# EAGLE library part PCM2903B (library ti-pcm2xxx)
Stereo Audio Codec with USB Interface, Single-Ended Analog and S/PDIF In/Out (3.3v) <http://focus.ti.com/docs/prod/folders/print/pcm2903b.html>
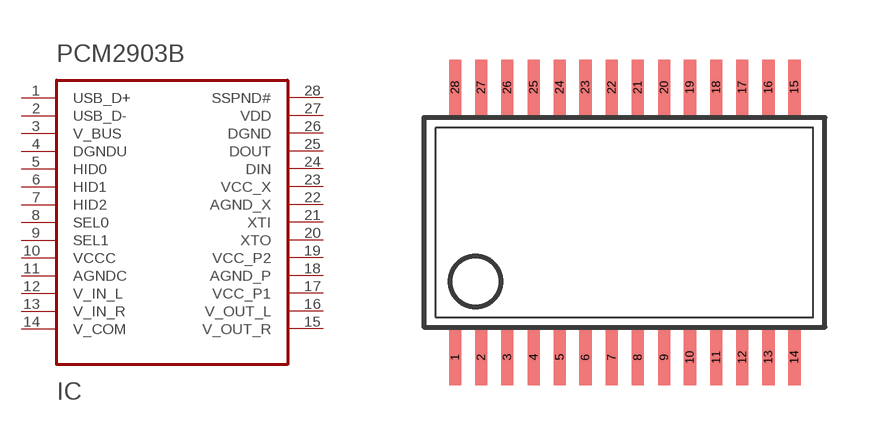
[diagram p8: symbol with the pads of SSOP28; footprint SSOP28]

Designator prefix IC

## PCM2903B  [SSOP28]
1  USB_D+
2  USB_D-
3  V_BUS
4  DGNDU
5  HID0
6  HID1
7  HID2
8  SEL0
9  SEL1
10  VCCC
11  AGNDC
12  V_IN_L  in
13  V_IN_R  in
14  V_COM
15  V_OUT_R  out
16  V_OUT_L  out
17  VCC_P1
18  AGND_P
19  VCC_P2
20  XTO
21  XTI
22  AGND_X
23  VCC_X
24  DIN  in
25  DOUT  out
26  DGND
27  VDD
28  SSPND#

## Footprint SSOP28 (pad centres in mm)
Shrink small-outline 28
smd 0.305 x 1.397: 1 -4.039,-2.856; 2 -3.384,-2.856; 3 -2.729,-2.856; 4 -2.064,-2.856; 5 -1.409,-2.856; 6 -0.764,-2.856; 7 -0.099,-2.856; 8 0.556,-2.856; 9 1.221,-2.856; 10 1.866,-2.856; 11 2.531,-2.856; 12 3.186,-2.856; 13 3.841,-2.856; 14 4.496,-2.856; 15 4.496,3.937; 16 3.841,3.937; 17 3.186,3.937; 18 2.531,3.937; 19 1.866,3.937; 20 1.221,3.937; 21 0.556,3.937; 22 -0.099,3.937; 23 -0.764,3.937; 24 -1.409,3.937; 25 -2.064,3.937; 26 -2.729,3.937; 27 -3.384,3.937; 28 -4.039,3.937